# Altium footprint library SamacSys.PcbLib: 35 footprints (part 2 of 3)
Each footprint in its own frame and in the unit in brackets; x right, y up, seen from the top. Pads: shape width x height; smd on the part's side, far side on the other; paste and mask are expansions set on the pad; w line width, h text height; cw(c..) or ccw(c..) is an arc to the next point about the centre after c.
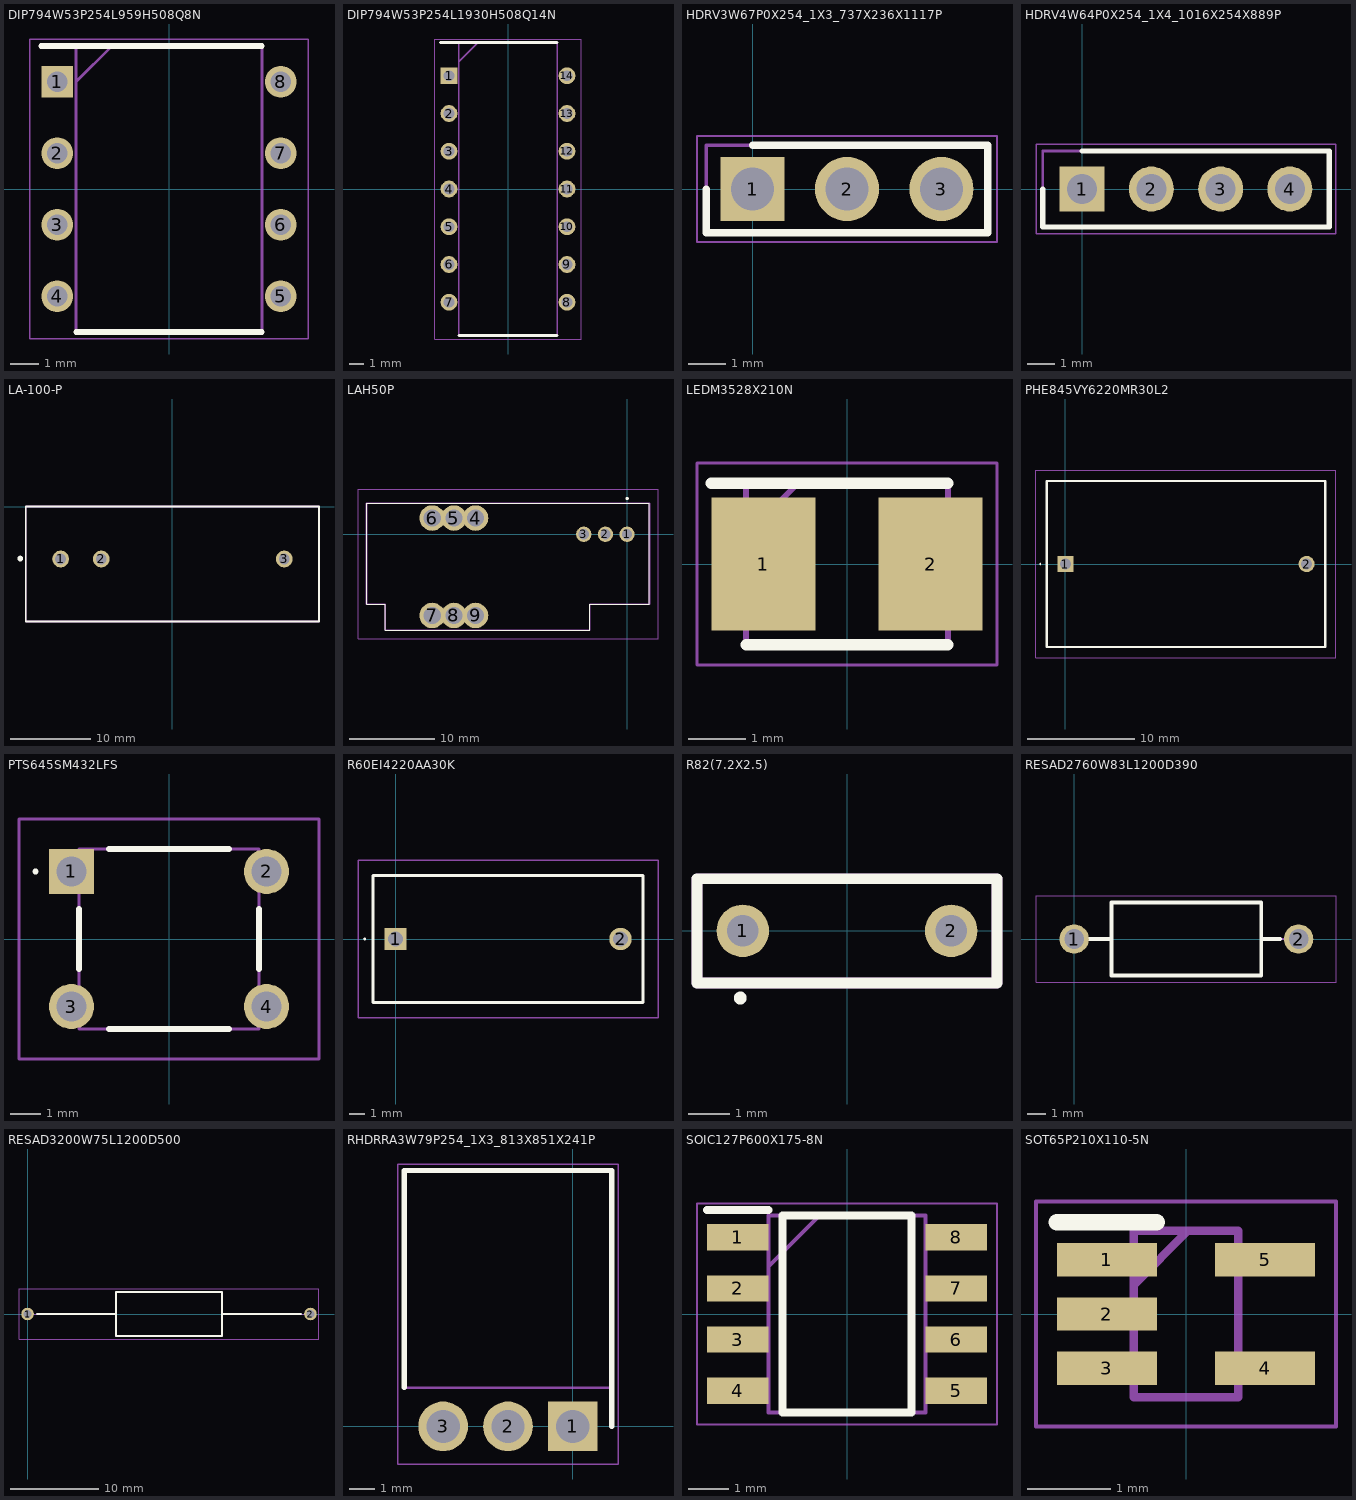
[diagram p1: the footprints below, top view; thin cyan lines are the x and y axes]

## DIP794W53P254L959H508Q8N [mm]
pads (8):
  rect 1.13x1.13 hole 0.73: 1(-3.97,3.81)
  round 1.13 hole 0.73: 2(-3.97,1.27) 3(-3.97,-1.27) 4(-3.97,-3.81) 5(3.97,-3.81) 6(3.97,-1.27) 7(3.97,1.27) 8(3.97,3.81)
Top Overlay:
  lines w0.2: -4.535,5.08 3.3,5.08 ; -3.3,-5.08 3.3,-5.08
Mechanical 13:
  lines w0.1: -3.3,3.81 -2.03,5.08 ; -3.3,-5.08 -3.3,5.08 3.3,5.08 3.3,-5.08 -3.3,-5.08
Mechanical 15:
  lines w0.05: -4.945,-5.33 -4.945,5.33 4.945,5.33 4.945,-5.33 -4.945,-5.33
3D body "TL082IP.stp": height 4.21, standoff -3.37, extent -4.102,-4.635 4.102,4.635

## DIP794W53P254L1930H508Q14N [mm]
pads (14):
  rect 1.13x1.13 hole 0.73: 1(-3.97,7.62)
  round 1.13 hole 0.73: 2(-3.97,5.08) 3(-3.97,2.54) 4(-3.97,0) 5(-3.97,-2.54) 6(-3.97,-5.08) 7(-3.97,-7.62) 8(3.97,-7.62) 9(3.97,-5.08) 10(3.97,-2.54) 11(3.97,0) 12(3.97,2.54) 13(3.97,5.08) 14(3.97,7.62)
Top Overlay:
  lines w0.2: -4.535,9.845 3.3,9.845 ; -3.3,-9.845 3.3,-9.845
Mechanical 13:
  lines w0.1: -3.3,8.575 -2.03,9.845 ; -3.3,-9.845 3.3,-9.845 3.3,9.845 -3.3,9.845 -3.3,-9.845
Mechanical 15:
  lines w0.05: -4.945,-10.095 4.945,-10.095 4.945,10.095 -4.945,10.095 -4.945,-10.095
3D body "SN74LS11N.stp": height 5.27, standoff -3.1, extent -3.937,-9.842 3.937,9.842

## HDRV3W67P0X254_1X3_737X236X1117P [mm]
pads (3):
  rect 1.725x1.725 hole 1.15: 1(0,0)
  round 1.725 hole 1.15: 2(2.54,0) 3(5.08,0)
Top Overlay:
  lines w0.2: -1.245,0 -1.245,-1.18 6.325,-1.18 6.325,1.18 0,1.18
Mechanical 13:
  lines w0.1: -1.245,-1.18 -1.245,1.18 6.325,1.18 6.325,-1.18 -1.245,-1.18
Mechanical 15:
  lines w0.05: -1.495,-1.43 -1.495,1.43 6.575,1.43 6.575,-1.43 -1.495,-1.43
3D body "22-03-2031.stp": height 10.84, standoff -3.38, extent -1.143,-1.201 6.223,1.161

## HDRV4W64P0X254_1X4_1016X254X889P [mm]
pads (4):
  rect 1.65x1.65 hole 1.1: 1(0,0)
  round 1.65 hole 1.1: 2(2.54,0) 3(5.08,0) 4(7.62,0)
Top Overlay:
  lines w0.2: -1.445,0 -1.445,-1.395 9.065,-1.395 9.065,1.395 0,1.395
Mechanical 13:
  lines w0.1: -1.445,-1.395 -1.445,1.395 9.065,1.395 9.065,-1.395 -1.445,-1.395
Mechanical 15:
  lines w0.05: -1.695,-1.645 -1.695,1.645 9.315,1.645 9.315,-1.645 -1.695,-1.645
3D body "M20-9990446.stp": height 8.89, standoff -3.25, extent -1.27,-1.27 8.89,1.27

## LA-100-P [mm]
pads (3):
  round 2.1 hole 1.35: 1(-13.97,-6.55) 2(-8.89,-6.55) 3(13.97,-6.55)
Top Overlay:
  circle w0.4: c-19.005,-6.496 r0.161
  lines w0.2: -18.3,-14.35 18.3,-14.35 18.3,0 -18.3,0 -18.3,-14.35
Mechanical 13:
  lines w0.2: -18.3,-14.35 -18.3,0 18.3,0 18.3,-14.35 -18.3,-14.35

## LAH50P [mm]
pads (9):
  round 1.8 hole 1.2: 1(0,0) 2(-2.54,0) 3(-5.08,0)
  round 3 hole 2: 4(-17.78,1.905) 5(-20.32,1.905) 6(-22.86,1.905) 7(-22.86,-9.525) 8(-20.32,-9.525) 9(-17.78,-9.525)
Top Overlay:
  lines w0.1: -30.57,-8.215 -30.57,3.655 2.63,3.655 2.63,-8.215 -4.37,-8.215 -4.37,-11.275 -28.37,-11.275 -28.37,-8.215 -30.39,-8.215 -30.57,-8.215
  lines w0.2: -0.1,4.2 cw(c0,4.2) 0.1,4.2 cw(c0,4.2) -0.1,4.2
Mechanical 13:
  lines w0.2: -30.57,-8.215 -28.37,-8.215 -28.37,-11.275 -4.37,-11.275 -4.37,-8.215 2.63,-8.215 2.63,3.655 -30.57,3.655 -30.57,-8.215
Mechanical 15:
  lines w0.1: -31.57,-12.275 -31.57,5.3 3.63,5.3 3.63,-12.275 -31.57,-12.275
3D body "LAH_50-P.stp": height 21.25, standoff -5, extent -30.57,-11.275 2.63,3.655

## LEDM3528X210N [mm]
pads (2):
  rect 1.8x2.3 smd: 1(-1.45,0) 2(1.45,0)
Top Overlay:
  lines w0.2: -2.35,1.4 1.75,1.4 ; -1.75,-1.4 1.75,-1.4
Mechanical 13:
  lines w0.1: -1.75,0.5 -0.85,1.4 ; -1.75,-1.4 -1.75,1.4 1.75,1.4 1.75,-1.4 -1.75,-1.4
Mechanical 15:
  lines w0.05: -2.6,-1.75 -2.6,1.75 2.6,1.75 2.6,-1.75 -2.6,-1.75

## PHE845VY6220MR30L2 [mm]
pads (2):
  rect 1.5x1.5 hole 1: 1(0,0)
  round 1.5 hole 1: 2(22.5,0)
Top Overlay:
  lines w0.1: -2.4,0 ccw(c-2.35,0) -2.3,0 ccw(c-2.35,0) -2.4,0
  lines w0.2: -1.75,-7.75 24.25,-7.75 24.25,7.75 -1.75,7.75 -1.75,-7.75
Mechanical 13:
  lines w0.1: -1.75,-7.75 24.25,-7.75 24.25,7.75 -1.75,7.75 -1.75,-7.75
Mechanical 15:
  lines w0.1: -2.75,-8.75 25.25,-8.75 25.25,8.75 -2.75,8.75 -2.75,-8.75
3D body "PHE845VY6220MR30L2.stp": height 25, standoff -4.5, extent -2,-8 24,7.501

## PTS645SM432LFS [mm]
pads (4):
  rect 1.5x1.5 hole 1: 1(-3.25,2.25)
  round 1.5 hole 1: 2(3.25,2.25) 3(-3.25,-2.25) 4(3.25,-2.25)
Top Overlay:
  lines w0.1: -4.5,2.25 cw(c-4.45,2.25) -4.4,2.25 cw(c-4.45,2.25) -4.5,2.25
  lines w0.2: -3,-1 -3,1 ; -2,-3 2,-3 ; -2,3 2,3 ; 3,-1 3,1
Mechanical 13:
  lines w0.1: -3,-3 -3,3 3,3 3,-3 -3,-3
Mechanical 15:
  lines w0.1: -5,-4 -5,4 5,4 5,-4 -5,-4
3D body "PTS645SM43-2_LFS.stp": height 4.5, standoff -5, extent -3.65,-3 3.65,3

## R60EI4220AA30K [mm]
pads (2):
  rect 1.5x1.5 hole 1: 1(0,0)
  round 1.5 hole 1: 2(15,0)
Top Overlay:
  lines w0.1: -2.1,0 ccw(c-2.05,0) -2,0 ccw(c-2.05,0) -2.1,0
  lines w0.2: -1.5,-4.25 -1.5,4.25 16.5,4.25 16.5,-4.25 -1.5,-4.25
Mechanical 13:
  lines w0.1: -1.5,-4.25 -1.5,4.25 16.5,4.25 16.5,-4.25 -1.5,-4.25
Mechanical 15:
  lines w0.1: -2.5,-5.25 -2.5,5.25 17.5,5.25 17.5,-5.25 -2.5,-5.25
3D body "R60EI4220AA30K.stp": height 14.6, standoff -5.5, extent -1.75,-4.355 16.75,4.35

## R82(7.2X2.5) [mm]
pads (2):
  round 1.26 hole 0.76: 1(-2.5,0) 2(2.5,0)
Top Overlay:
  circle w0.254: c-2.561,-1.613 r0.027
  lines w0.254: -3.6,-1.25 -3.6,1.25 3.6,1.25 3.6,-1.25 -3.6,-1.25
Mechanical 13:
  lines w0.254: -3.6,-1.25 3.6,-1.25 3.6,1.25 -3.6,1.25 -3.6,-1.25
3D body "R82EC3100DQ70J.stp": height 6.6, standoff -19, extent -3.7,-1.425 3.7,1.18

## RESAD2760W83L1200D390 [mm]
pads (2):
  round 1.575 hole 1.05: 1(0,0) 2(12,0)
Top Overlay:
  lines w0.2: 0.138,0 2,0 ; 10,0 11,0 ; 2,-1.95 2,1.95 10,1.95 10,0.775 10,-0.775 10,-1.95 2,-1.95
Mechanical 13:
  lines w0.1: 11,0 10,0 12,0 ; 2,-1.95 10,-1.95 10,1.95 2,1.95 2,-1.95
Mechanical 15:
  lines w0.05: -2.038,-2.3 -2.038,2.3 14,2.3 14,-2.3 -2.038,-2.3
3D body: height 0.25, standoff 0, extent 3,-1 9,1

## RESAD3200W75L1200D500 [mm]
pads (2):
  round 1.425 hole 0.95: 1(0,0) 2(32,0)
Top Overlay:
  lines w0.2: 1.062,0 10,0 ; 22,0 30.938,0 ; 10,-2.5 22,-2.5 22,2.5 10,2.5 10,-2.5
Mechanical 13:
  lines w0.1: 0,0 10,0 ; 22,0 32,0 ; 10,-2.5 22,-2.5 22,2.5 10,2.5 10,-2.5
Mechanical 15:
  lines w0.05: -0.962,-2.85 32.963,-2.85 32.963,2.85 -0.962,2.85 -0.962,-2.85
3D body "CFR100J330R.stp": height 5, standoff -5, extent -0.375,-2.5 32.375,2.5

## RHDRRA3W79P254_1X3_813X851X241P [mm]
pads (3):
  rect 1.95x1.95 hole 1.3: 1(0,0)
  round 1.95 hole 1.3: 2(-2.54,0) 3(-5.08,0)
Top Overlay:
  lines w0.2: -6.605,1.52 -6.605,10.03 1.525,10.03 1.525,0
Mechanical 13:
  lines w0.1: -6.605,1.52 -6.605,10.03 1.525,10.03 1.525,1.52 -6.605,1.52
Mechanical 15:
  lines w0.05: -6.855,-1.475 -6.855,10.28 1.775,10.28 1.775,-1.475 -6.855,-1.475
3D body "SSW-103-02-G-S-RA-LL.stp": height 2.41, standoff -2.54, extent -6.605,-0.395 1.525,10.03

## SOIC127P600X175-8N [mm]
pads (8):
  rect 1.525x0.65 smd: 1(-2.712,1.905) 2(-2.712,0.635) 3(-2.712,-0.635) 4(-2.712,-1.905) 5(2.712,-1.905) 6(2.712,-0.635) 7(2.712,0.635) 8(2.712,1.905)
Top Overlay:
  lines w0.2: -3.475,2.58 -1.95,2.58 ; -1.6,-2.45 1.6,-2.45 1.6,2.45 -1.6,2.45 -1.6,-2.45
Mechanical 13:
  lines w0.1: -1.95,1.18 -0.68,2.45 ; -1.95,-2.45 1.95,-2.45 1.95,2.45 -1.95,2.45 -1.95,-2.45
Mechanical 15:
  lines w0.05: -3.725,-2.75 3.725,-2.75 3.725,2.75 -3.725,2.75 -3.725,-2.75
3D body "NE555DR.stp": height 1.75, standoff 0, extent -3,-2.45 3,2.45

## SOT65P210X110-5N [mm]
pads (5):
  rect 1.2x0.4 smd: 1(-0.95,0.65) 2(-0.95,0) 3(-0.95,-0.65) 4(0.95,-0.65) 5(0.95,0.65)
Top Overlay:
  lines w0.2: -1.55,1.1 -0.35,1.1
Mechanical 13:
  lines w0.1: -0.625,0.35 0.025,1 ; -0.625,-1 0.625,-1 0.625,1 -0.625,1 -0.625,-1
Mechanical 15:
  lines w0.05: -1.8,-1.35 1.8,-1.35 1.8,1.35 -1.8,1.35 -1.8,-1.35
3D body "NC7SV08P5X.stp": height 1.1, standoff 0, extent -1.05,-1 1.05,1